# Altium schematic symbol library NCP1680(SchLib).SchLib: 1 symbol
Pins are listed as number, name and electrical type; pins without a type are passive.

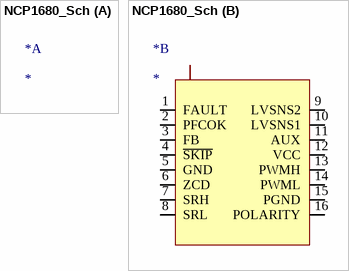
[diagram p0: symbol NCP1680_Sch]

## NCP1680_Sch
designator *
part B pins: 1 FAULT, 2 PFCOK, 3 FB, 4 ~{SKIP}, 5 GND, 6 ZCD, 7 SRH, 8 SRL, 9 LVSNS2, 10 LVSNS1, 11 AUX, 12 VCC, 13 PWMH, 14 PWML, 15 PGND, 16 POLARITY